# Altium footprint library RES_ERJU02F3600X.PcbLib: 1 footprints
Each footprint in its own frame and in the unit in brackets; x right, y up, seen from the top. Pads: shape width x height; smd on the part's side, far side on the other; paste and mask are expansions set on the pad; w line width, h text height; cw(c..) or ccw(c..) is an arc to the next point about the centre after c.
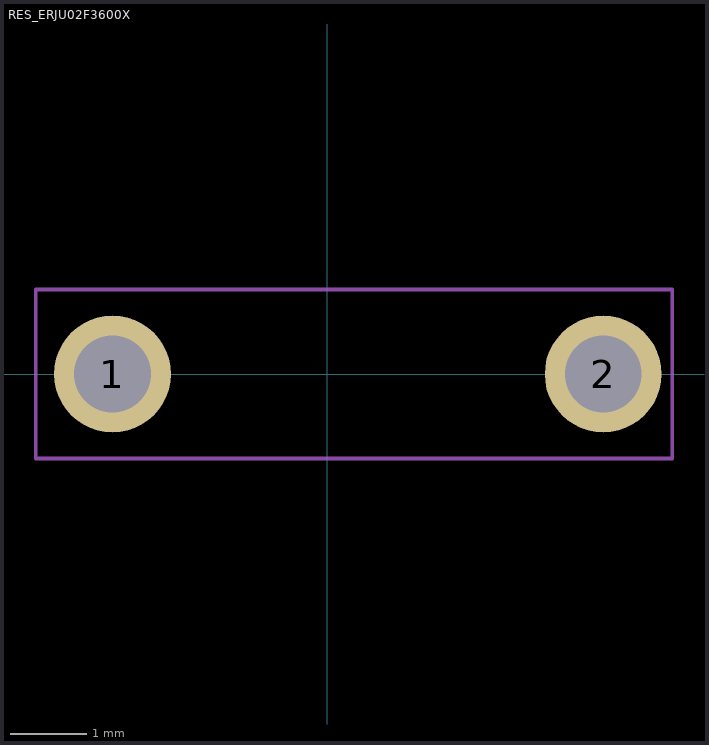
[diagram p0: the footprint, top view; thin cyan lines are the x and y axes]

## RES_ERJU02F3600X [mil]
pads (2):
  round 60 hole 39.37: 1(-110.24,0) 2(141.73,0)
Mechanical 15:
  lines w1.97: -149.61,-43.31 177.17,-43.31 177.17,43.31 -149.61,43.31 -149.61,-43.31